# Altium integrated library Analog Devices Data Converters Analog-to-Digital Converters.IntLib: 2400 symbols (part 20 of 338)
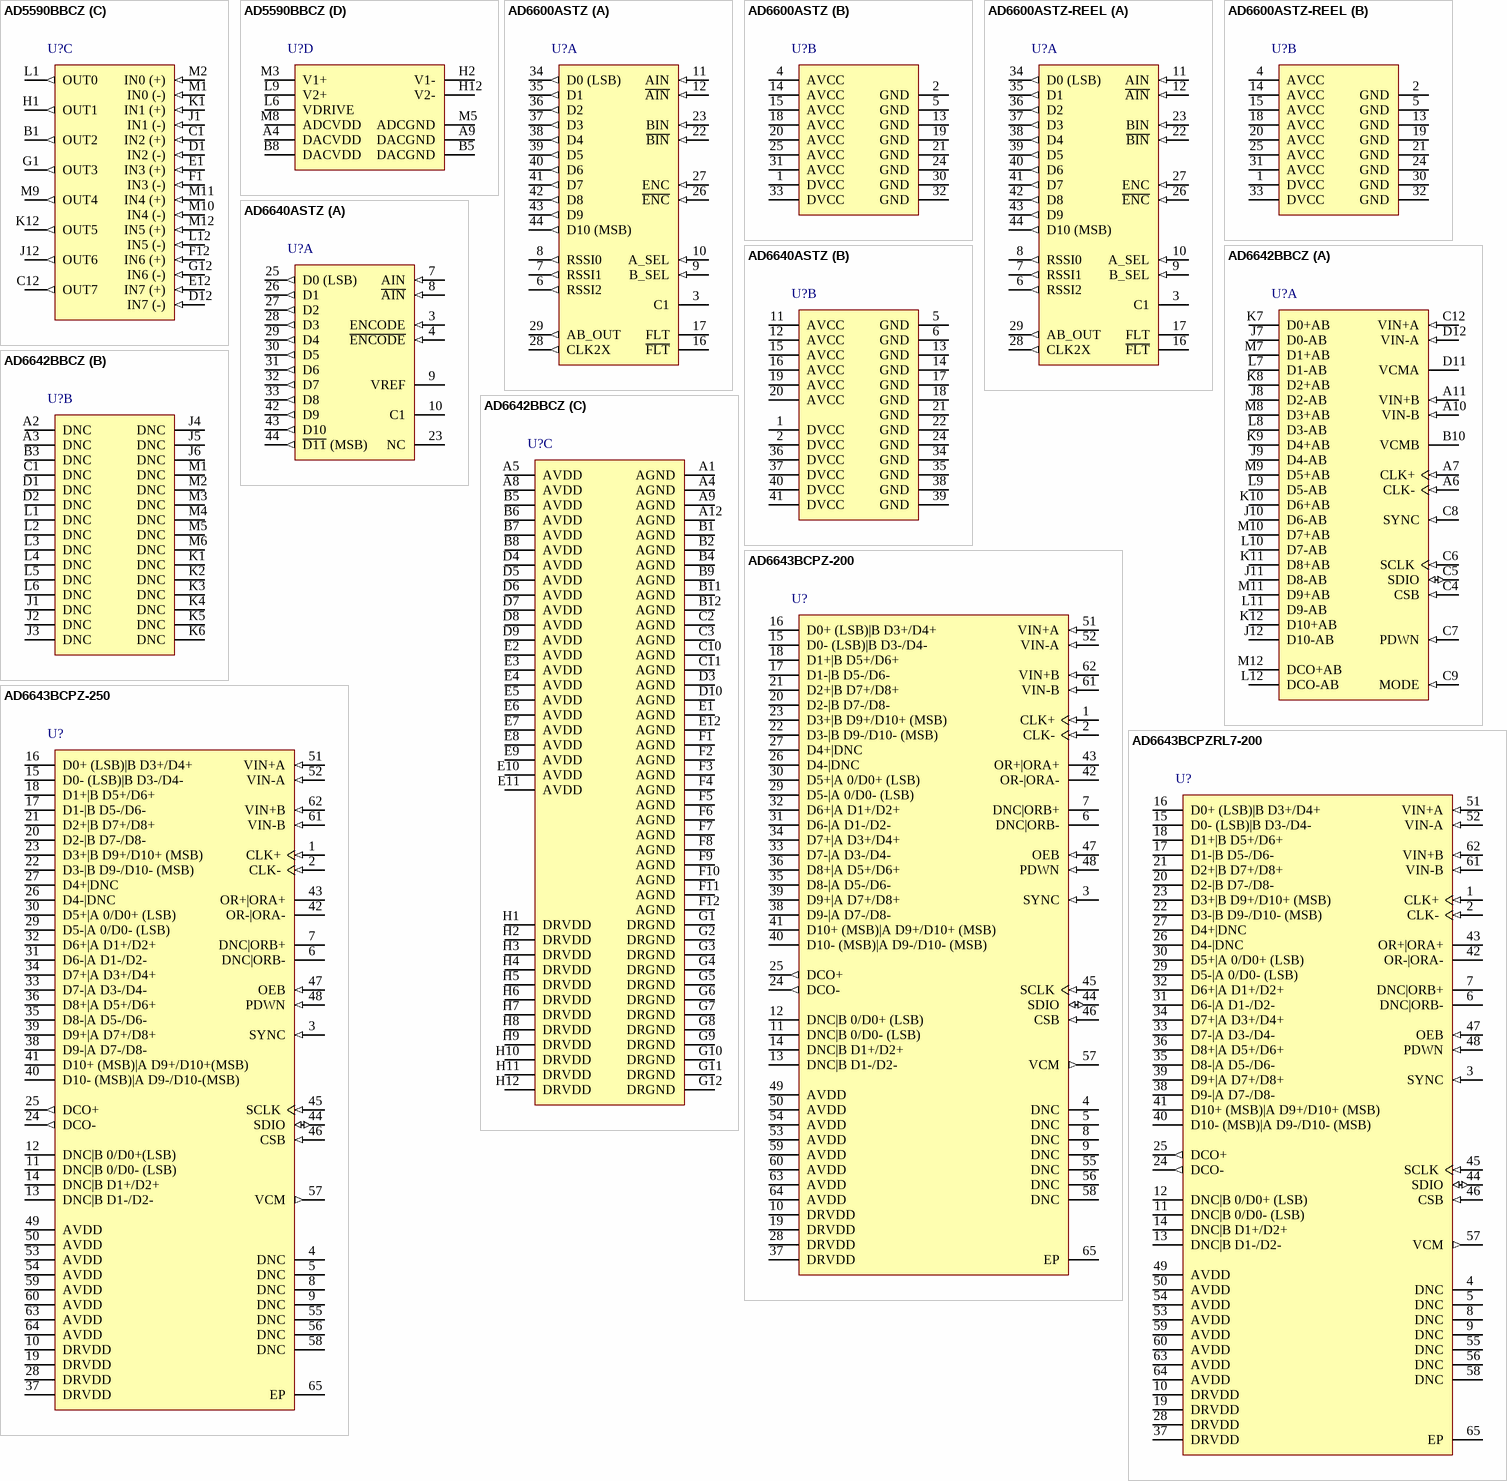
[diagram p265: symbols AD5590BBCZ to AD6643BCPZRL7-200]

## AD5590BBCZ
designator U?
16 Channel 12-Bit Analog-to-Digital Converter with Serial, SPI Interface, 1MSPS, -40 to +85 degC, BC-80-2, Pb-Free, Tray; Part Number: AD5590; Manufacturer: Analog Devices; Resolution (Bits): 12; Channels: 16; Throughput Rate (SPS): 1M; Interface: Ser, SPI; DatasheetVersion: Rev.A; PackageVersion: 011007-A; PackageReference: BC-80-2; PackageDescription: 80-Ball Chip Scale Package Ball Grid Array [CSP_BGA]; RoHS: Y; Packing: Tray; Mounting Technology: Surface Mount; Code_JEDEC: MO-205-AC*; ComponentLink1Description: Manufacturer URL; ComponentLink1URL: http://www.analog.com/en/index.html; ComponentLink2Description: Datasheet; ComponentLink2URL: http://www.analog.com/static/imported-files/data_sheets/AD5590.pdf; ComponentLink3Description: Package Specification; ComponentLink3URL: http://www.analog.com/static/imported-files/packages/PKG_PDF/CSPBGA%20(BC)/BC_80_2.pdf; ComponentLink4Description: Product URL; ComponentLink4URL: http://www.analog.com/en/analog-to-digital-converters/ad-converters/ad5590/products/product.html
footprint BC-80-2 (BGA, 80-Leads, Body 10x10mm, Pitch 0.8mm)
part A pins: B2 VIN8 (in) "Analog Input 0 through Analog Input 15. Sixteen single-ended analog input channels that are multiplexed into the on-chip track and hold. The analog input channel to be converted is selected by using the ADD3 through ADD0 (See Datasheet)", B3 VIN9 (in) "Analog Input 0 through Analog Input 15. Sixteen single-ended analog input channels that are multiplexed into the on-chip track and hold. The analog input channel to be converted is selected by using the ADD3 through ADD0 (See Datasheet)", B11 VIN10 (in) "Analog Input 0 through Analog Input 15. Sixteen single-ended analog input channels that are multiplexed into the on-chip track and hold. The analog input channel to be converted is selected by using the ADD3 through ADD0 (See Datasheet)", B12 VIN12 (in) "Analog Input 0 through Analog Input 15. Sixteen single-ended analog input channels that are multiplexed into the on-chip track and hold. The analog input channel to be converted is selected by using the ADD3 through ADD0 (See Datasheet)", G2 VIN5 (in) "Analog Input 0 through Analog Input 15. Sixteen single-ended analog input channels that are multiplexed into the on-chip track and hold. The analog input channel to be converted is selected by using the ADD3 through ADD0 (See Datasheet)", H11 VIN15 (in) "Analog Input 0 through Analog Input 15. Sixteen single-ended analog input channels that are multiplexed into the on-chip track and hold. The analog input channel to be converted is selected by using the ADD3 through ADD0 (See Datasheet)", J2 VIN7 (in) "Analog Input 0 through Analog Input 15. Sixteen single-ended analog input channels that are multiplexed into the on-chip track and hold. The analog input channel to be converted is selected by using the ADD3 through ADD0 (See Datasheet)", J11 VREFA (in) "Reference Input for the ADC Block. An external reference must be applied to this input. The voltage range for the external reference is 2.5 V +/- 1% for specified performance.", K2 VIN6 (in) "Analog Input 0 through Analog Input 15. Sixteen single-ended analog input channels that are multiplexed into the on-chip track and hold. The analog input channel to be converted is selected by using the ADD3 through ADD0 (See Datasheet)", K11 VIN14 (in) "Analog Input 0 through Analog Input 15. Sixteen single-ended analog input channels that are multiplexed into the on-chip track and hold. The analog input channel to be converted is selected by using the ADD3 through ADD0 (See Datasheet)", L2 VIN4 (in) "Analog Input 0 through Analog Input 15. Sixteen single-ended analog input channels that are multiplexed into the on-chip track and hold. The analog input channel to be converted is selected by using the ADD3 through ADD0 (See Datasheet)", L3 VIN2 (in) "Analog Input 0 through Analog Input 15. Sixteen single-ended analog input channels that are multiplexed into the on-chip track and hold. The analog input channel to be converted is selected by using the ADD3 through ADD0 (See Datasheet)", L4 VIN3 (in) "Analog Input 0 through Analog Input 15. Sixteen single-ended analog input channels that are multiplexed into the on-chip track and hold. The analog input channel to be converted is selected by using the ADD3 through ADD0 (See Datasheet)", L5 VIN1 (in) "Analog Input 0 through Analog Input 15. Sixteen single-ended analog input channels that are multiplexed into the on-chip track and hold. The analog input channel to be converted is selected by using the ADD3 through ADD0 (See Datasheet)", L7 ASCLK (in) "Serial Clock. Logic input. ASCLK provides the serial clock for accessing data from the ADC block. This clock input is also used as the clock source for the conversion process of the ADC.", L8 ADIN (in) "ADC Data In. Logic input. Data to be written to the control register of the ADC is provided on this input and is clocked into the register on the falling edge of ASCLK (see the Accessing the ADC Block section).", L10 VIN13 (in) "Analog Input 0 through Analog Input 15. Sixteen single-ended analog input channels that are multiplexed into the on-chip track and hold. The analog input channel to be converted is selected by using the ADD3 through ADD0 (See Datasheet)", L11 VIN11 (in) "Analog Input 0 through Analog Input 15. Sixteen single-ended analog input channels that are multiplexed into the on-chip track and hold. The analog input channel to be converted is selected by using the ADD3 through ADD0 (See Datasheet)", M4 VIN0 (in) "Analog Input 0 through Analog Input 15. Sixteen single-ended analog input channels that are multiplexed into the on-chip track and hold. The analog input channel to be converted is selected by using the ADD3 through ADD0 (See Datasheet)", M6 ADOUT (hiz) "Data Out. Logic output. The conversion result from the ADC block is provided on this output as a serial data stream. The bits are clocked out on the falling edge of the ASCLK input. The data stream consists of four address (See Datasheet)", M7 ~{ASYNC} (in) "Frame Synchronization Signal. Active low logic input. This input provides the dual function of  initiating ADC conversions and also frames the serial data transfer."
part B pins: A1 VOUT0 (out) "Analog Output Voltage from DAC0 to DAC7. D\S\Y\N\C\1\ is the frame synchronization signal for writing data to these DACs. The DAC is updated automatically if L\D\A\C\ is low, or on the falling edge of L\D\A\C\ if it is high. (See Datasheet)", A2 VOUT7 (out) "Analog Output Voltage from DAC0 to DAC7. D\S\Y\N\C\1\ is the frame synchronization signal for writing data to these DACs. The DAC is updated automatically if L\D\A\C\ is low, or on the falling edge of L\D\A\C\ if it is high. (See Datasheet)", A3 VOUT5 (out) "Analog Output Voltage from DAC0 to DAC7. D\S\Y\N\C\1\ is the frame synchronization signal for writing data to these DACs. The DAC is updated automatically if L\D\A\C\ is low, or on the falling edge of L\D\A\C\ if it is high. (See Datasheet)", A5 ~{DSYNC1} (in) "Active Low Control Input. This is the frame synchronization signal for the input data of DAC channels VOUT0 to VOUT7. When D\S\Y\N\C\1\ goes low, it powers on the DSCLK and DDIN buffers and enables the input shift register. (See Datasheet)", A6 DSCLK (in) "DAC Clock Input. Data is clocked into the input shift register on the falling edge of the serial clock input. Data can be transferred at rates of up to 50 MHz.", A7 DDIN (in) "DAC Data Input. This DAC has a 32-bit shift register. Data is clocked into the register on the falling edge of the serial clock input.", A8 ~{LDAC} (in) "Pulsing this pin low allows any or all DAC registers to be updated if the input registers have new data. This allows all DAC outputs to simultaneously update. Alternatively, this pin can be tied permanently low.", A10 VOUT8 (out) "Analog Output Voltage from DAC8 to DAC15. D\S\Y\N\C\2\ is the frame synchronization signal for writing data to these DACs. The DAC is updated automatically if L\D\A\C\ is low, or on the falling edge of L\D\A\C\ if it is high.(See Datasheet)", A11 VOUT10 (out) "Analog Output Voltage from DAC8 to DAC15. D\S\Y\N\C\2\ is the frame synchronization signal for writing data to these DACs. The DAC is updated automatically if L\D\A\C\ is low, or on the falling edge of L\D\A\C\ if it is high.(See Datasheet)", A12 VOUT14 (out) "Analog Output Voltage from DAC8 to DAC15. D\S\Y\N\C\2\ is the frame synchronization signal for writing data to these DACs. The DAC is updated automatically if L\D\A\C\ is low, or on the falling edge of L\D\A\C\ if it is high.(See Datasheet)", B4 VOUT3 (out) "Analog Output Voltage from DAC0 to DAC7. D\S\Y\N\C\1\ is the frame synchronization signal for writing data to these DACs. The DAC is updated automatically if L\D\A\C\ is low, or on the falling edge of L\D\A\C\ if it is high. (See Datasheet)", B6 ~{CLR} (in) "Asynchronous Clear Input. The C\L\R\ input is falling edge sensitive. When C\L\R\ is low, all L\D\A\C\ pulses are ignored. When C\L\R\ is activated, the input register and the DAC register are updated with the data contained (See Datasheet)", B7 ~{DSYNC2} (in) "Active Low Control Input. This is the frame synchronization signal for the input data of DAC channels VOUT8 to VOUT15. When D\S\Y\N\C\2\ goes low, it powers on the DSCLK and DDIN buffers and enables the input shift register. (See Datasheet)", B9 VOUT1 (out) "Analog Output Voltage from DAC0 to DAC7. D\S\Y\N\C\1\ is the frame synchronization signal for writing data to these DACs. The DAC is updated automatically if L\D\A\C\ is low, or on the falling edge of L\D\A\C\ if it is high. (See Datasheet)", B10 VOUT12 (out) "Analog Output Voltage from DAC8 to DAC15. D\S\Y\N\C\2\ is the frame synchronization signal for writing data to these DACs. The DAC is updated automatically if L\D\A\C\ is low, or on the falling edge of L\D\A\C\ if it is high.(See Datasheet)", C2 VOUT2 (out) "Analog Output Voltage from DAC0 to DAC7. D\S\Y\N\C\1\ is the frame synchronization signal for writing data to these DACs. The DAC is updated automatically if L\D\A\C\ is low, or on the falling edge of L\D\A\C\ if it is high. (See Datasheet)", C11 VOUT9 (out) "Analog Output Voltage from DAC8 to DAC15. D\S\Y\N\C\2\ is the frame synchronization signal for writing data to these DACs. The DAC is updated automatically if L\D\A\C\ is low, or on the falling edge of L\D\A\C\ if it is high.(See Datasheet)", D2 VOUT4 (out) "Analog Output Voltage from DAC0 to DAC7. D\S\Y\N\C\1\ is the frame synchronization signal for writing data to these DACs. The DAC is updated automatically if L\D\A\C\ is low, or on the falling edge of L\D\A\C\ if it is high. (See Datasheet)", D11 VOUT11 (out) "Analog Output Voltage from DAC8 to DAC15. D\S\Y\N\C\2\ is the frame synchronization signal for writing data to these DACs. The DAC is updated automatically if L\D\A\C\ is low, or on the falling edge of L\D\A\C\ if it is high.(See Datasheet)", E2 VOUT6 (out) "Analog Output Voltage from DAC0 to DAC7. D\S\Y\N\C\1\ is the frame synchronization signal for writing data to these DACs. The DAC is updated automatically if L\D\A\C\ is low, or on the falling edge of L\D\A\C\ if it is high. (See Datasheet)", E11 VOUT13 (out) "Analog Output Voltage from DAC8 to DAC15. D\S\Y\N\C\2\ is the frame synchronization signal for writing data to these DACs. The DAC is updated automatically if L\D\A\C\ is low, or on the falling edge of L\D\A\C\ if it is high.(See Datasheet)", F2 VREFIN1/VREFOUT1 (io) "Reference Input/Output Pin for DAC0 to DAC7. The DACs have a common pin for reference input and reference output. When using the internal reference, this is the reference output pin. When using an external reference, this is (See Datasheet)", F11 VOUT15 (out) "Analog Output Voltage from DAC8 to DAC15. D\S\Y\N\C\2\ is the frame synchronization signal for writing data to these DACs. The DAC is updated automatically if L\D\A\C\ is low, or on the falling edge of L\D\A\C\ if it is high.(See Datasheet)", G11 VREFIN2/VREFOUT2 (io) "Reference Input/Output Pin for DAC8 to DAC15. The DACs have a common pin for reference input and reference output. When using the internal reference, this is the reference output pin. When using an external reference, this (See Datasheet)"
part C pins: B1 OUT2 (out) "Output Terminals for Operational Amplifier 0 to Amplifier 7.", C1 IN2 (+) (in) "Noninverting Input Terminals for Operational Amplifier 0 to Amplifier 7.", C12 OUT7 (out) "Output Terminals for Operational Amplifier 0 to Amplifier 7.", D1 IN2 (-) (in) "Inverting Input Terminals for Operational Amplifier 0 to Amplifier 7.", D12 IN7 (-) (in) "Inverting Input Terminals for Operational Amplifier 0 to Amplifier 7.", E1 IN3 (+) (in) "Noninverting Input Terminals for Operational Amplifier 0 to Amplifier 7.", E12 IN7 (+) (in) "Noninverting Input Terminals for Operational Amplifier 0 to Amplifier 7.", F1 IN3 (-) (in) "Inverting Input Terminals for Operational Amplifier 0 to Amplifier 7.", F12 IN6 (+) (in) "Noninverting Input Terminals for Operational Amplifier 0 to Amplifier 7.", G1 OUT3 (out) "Output Terminals for Operational Amplifier 0 to Amplifier 7.", G12 IN6 (-) (in) "Inverting Input Terminals for Operational Amplifier 0 to Amplifier 7.", H1 OUT1 (out) "Output Terminals for Operational Amplifier 0 to Amplifier 7.", J1 IN1 (-) (in) "Inverting Input Terminals for Operational Amplifier 0 to Amplifier 7.", J12 OUT6 (out) "Output Terminals for Operational Amplifier 0 to Amplifier 7.", K1 IN1 (+) (in) "Noninverting Input Terminals for Operational Amplifier 0 to Amplifier 7.", K12 OUT5 (out) "Output Terminals for Operational Amplifier 0 to Amplifier 7.", L1 OUT0 (out) "Output Terminals for Operational Amplifier 0 to Amplifier 7.", L12 IN5 (-) (in) "Inverting Input Terminals for Operational Amplifier 0 to Amplifier 7.", M1 IN0 (-) (in) "Inverting Input Terminals for Operational Amplifier 0 to Amplifier 7.", M2 IN0 (+) (in) "Noninverting Input Terminals for Operational Amplifier 0 to Amplifier 7.", M9 OUT4 (out) "Output Terminals for Operational Amplifier 0 to Amplifier 7.", M10 IN4 (-) (in) "Inverting Input Terminals for Operational Amplifier 0 to Amplifier 7.", M11 IN4 (+) (in) "Noninverting Input Terminals for Operational Amplifier 0 to Amplifier 7.", M12 IN5 (+) (in) "Noninverting Input Terminals for Operational Amplifier 0 to Amplifier 7."
part D pins: A4 DACVDD (power) "Power Supply Input for the DAC Block. The DAC can operate from 4.5 V to 5.25 V, and the supply should be decoupled with a 10 uF in parallel with a 0.1 uF capacitor to DACGND. The two DACVDD pins must be connected together.", A9 DACGND (power) "Ground Reference Point for the DAC Block. All DAC analog/digital input/output signals and any external reference signal should be referred to this DACGND voltage. The two DACGND pins should be connected together.", B5 DACGND (power) "Ground Reference Point for the DAC Block. All DAC analog/digital input/output signals and any external reference signal should be referred to this DACGND voltage. The two DACGND pins should be connected together.", B8 DACVDD (power) "Power Supply Input for the DAC Block. The DAC can operate from 4.5 V to 5.25 V, and the supply should be decoupled with a 10 uF in parallel with a 0.1 uF capacitor to DACGND. The two DACVDD pins must be connected together.", H2 V1- (power) "Negative Supply Input for Amplifier 0 to Amplifier 3.", H12 V2- (power) "Negative Supply Input for Amplifier 4 to Amplifier 7.", L6 VDRIVE (power) "Logic Power Supply Input. The voltage supplied at this pin determines at what voltage the serial interface of the ADC block operates.", L9 V2+ (power) "Positive Supply Input for Amplifier 4 to Amplifier 7. The supply for these amplifiers is independent of other supplies and can be operated with a different supply if required. The pin should be decoupled to V2- with a 10 uF (See Datasheet)", M3 V1+ (power) "Positive Supply Input for the amplifier 0 to amplifier 3. The supply for these amplifiers is independent of other supplies and can be operated with a different supply if required. The pin should be decoupled to V1- with a 10 (See Datasheet)", M5 ADCGND (power) "Ground Reference Point for the ADC Block. All ADC analog/digital input/output signals and any external reference signal should be referred to this ADCGND voltage.", M8 ADCVDD (power) "Power Supply Input for the ADC Block. The ADC can operate from 4.5 V to 5.25 V, and the supply should be decoupled with a 10 uF in parallel with a 0.1 uF capacitor to ADCGND."